# Altium schematic symbol library 1N4007.SchLib: 1 symbol
Pins are listed as number, name and electrical type; pins without a type are passive.

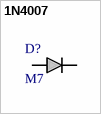
[diagram p0: symbol 1N4007]

## 1N4007
designator D?, comment M7
footprint 1N4007
pins: A, C